# EAGLE library part XC2SE-FG456 (library Xilinx)
Spartan 2E FPGA in FG456 Package
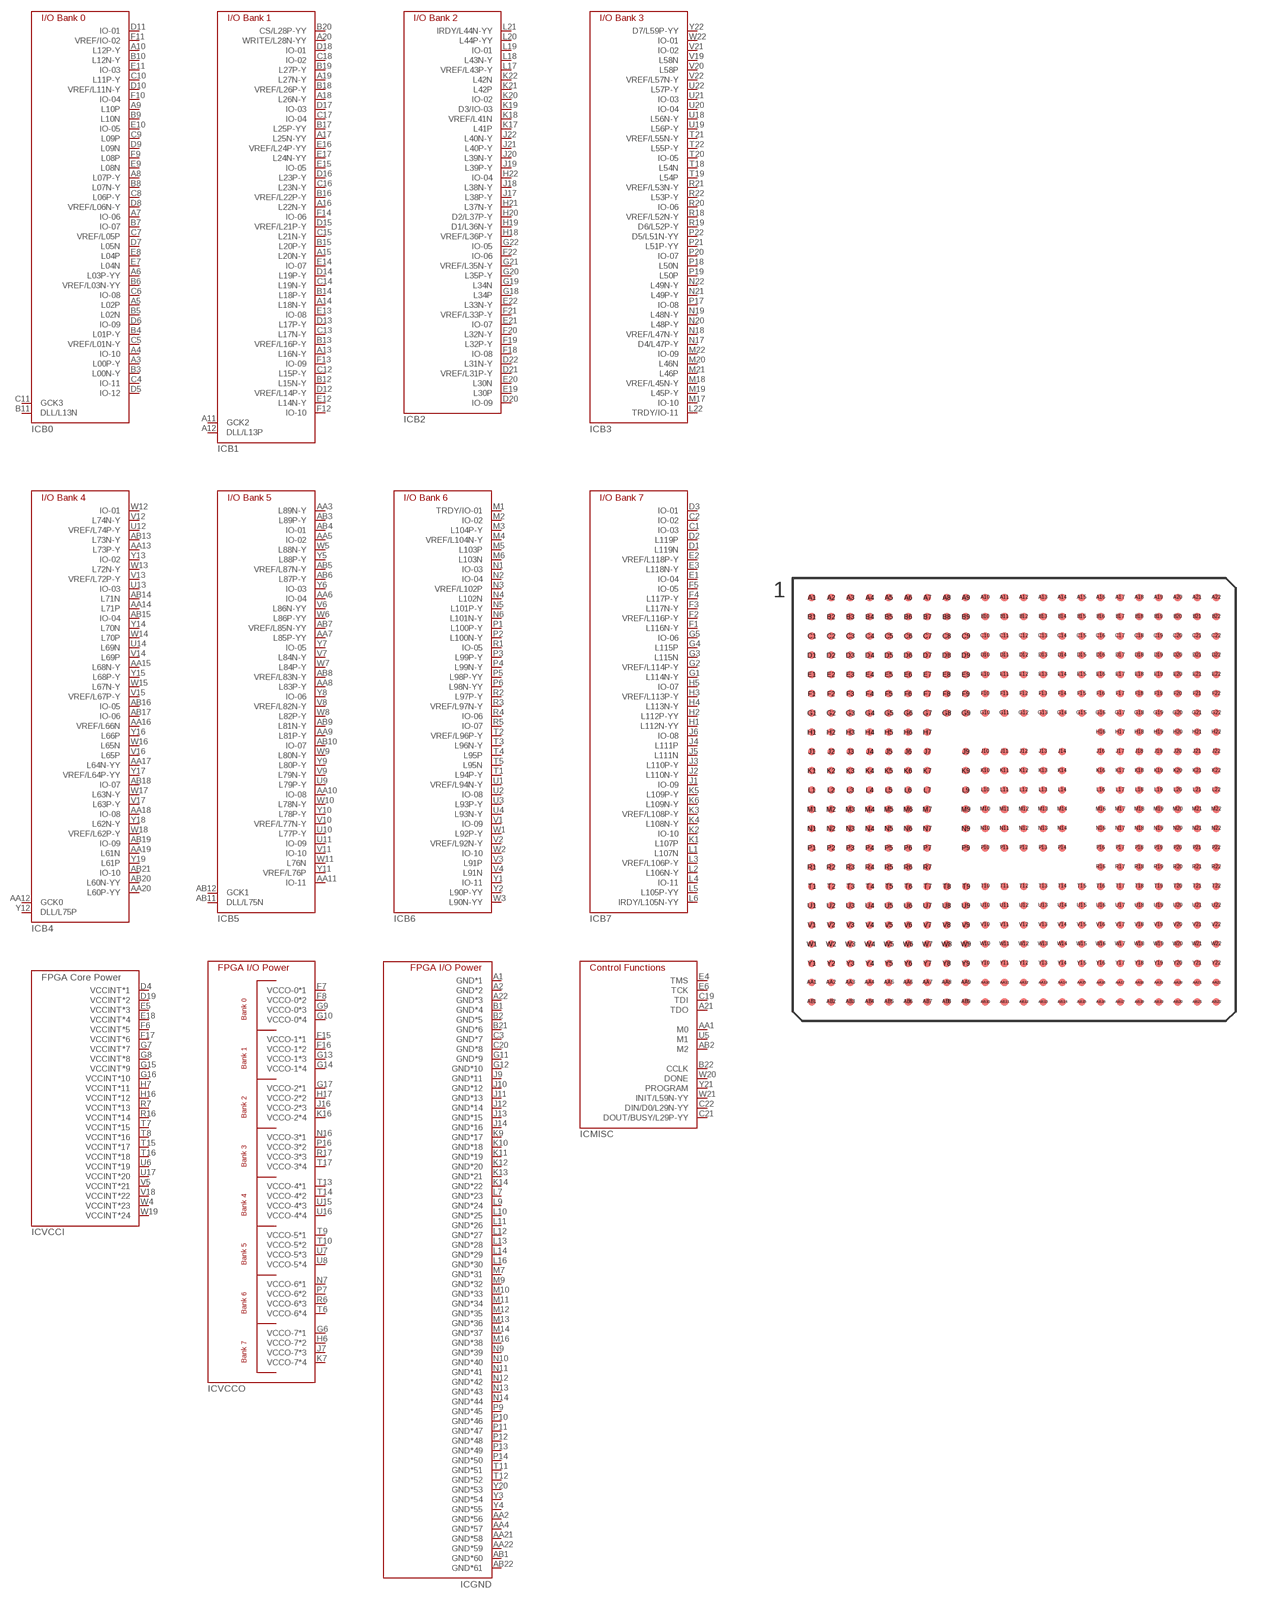
[diagram p19: symbol with the pads of FG456; footprint FG456]

Designator prefix IC; gates B0=XC2SE/FG456-B0 B1=XC2SE/FG456-B1 B3=XC2SE/FG456-B3 B5=XC2SE/FG456-B5 B6=XC2SE/FG456-B6 B7=XC2SE/FG456-B7 VCCI=XC2SE/FG456-VCCI VCCO=XC2SE/FG456-VCCO GND=XC2SE/FG456-GND MISC=XC2SE/FG456-MISC B2=XC2SE/FG456-B2 B4=XC2SE/FG456-B4

## XC2SE-FG456  [FG456]
A1  GND:GND*1  pwr
A2  GND:GND*2  pwr
A3  B0:L00P-Y
A4  B0:IO-10
A5  B0:L02P
A6  B0:L03P-YY
A7  B0:IO-06
A8  B0:L07P-Y
A9  B0:L10P
A10  B0:L12P-Y
A11  B1:GCK2
A12  B1:DLL/L13P
A13  B1:L16N-Y
A14  B1:L18N-Y
A15  B1:L20N-Y
A16  B1:L22N-Y
A17  B1:L25N-YY
A18  B1:L26N-Y
A19  B1:L27N-Y
A20  B1:WRITE/L28N-YY
A21  MISC:TDO
A22  GND:GND*3  pwr
AA1  MISC:M0
AA2  GND:GND*56  pwr
AA3  B5:L89N-Y
AA4  GND:GND*57  pwr
AA5  B5:IO-02
AA6  B5:IO-04
AA7  B5:L85P-YY
AA8  B5:L83P-Y
AA9  B5:L81P-Y
AA10  B5:IO-08
AA11  B5:IO-11
AA12  B4:GCK0
AA13  B4:L73P-Y
AA14  B4:L71P
AA15  B4:L68N-Y
AA16  B4:VREF/L66N
AA17  B4:L64N-YY
AA18  B4:IO-08
AA19  B4:L61N
AA20  B4:L60P-YY
AA21  GND:GND*58  pwr
AA22  GND:GND*59  pwr
AB1  GND:GND*60  pwr
AB2  MISC:M2
AB3  B5:L89P-Y
AB4  B5:IO-01
AB5  B5:VREF/L87N-Y
AB6  B5:L87P-Y
AB7  B5:VREF/L85N-YY
AB8  B5:VREF/L83N-Y
AB9  B5:L81N-Y
AB10  B5:IO-07
AB11  B5:DLL/L75N
AB12  B5:GCK1
AB13  B4:L73N-Y
AB14  B4:L71N
AB15  B4:IO-04
AB16  B4:IO-05
AB17  B4:IO-06
AB18  B4:IO-07
AB19  B4:IO-09
AB20  B4:L60N-YY
AB21  B4:IO-10
AB22  GND:GND*61  pwr
B1  GND:GND*4  pwr
B2  GND:GND*5  pwr
B3  B0:L00N-Y
B4  B0:L01P-Y
B5  B0:L02N
B6  B0:VREF/L03N-YY
B7  B0:IO-07
B8  B0:L07N-Y
B9  B0:L10N
B10  B0:L12N-Y
B11  B0:DLL/L13N
B12  B1:L15N-Y
B13  B1:VREF/L16P-Y
B14  B1:L18P-Y
B15  B1:L20P-Y
B16  B1:VREF/L22P-Y
B17  B1:L25P-YY
B18  B1:VREF/L26P-Y
B19  B1:L27P-Y
B20  B1:CS/L28P-YY
B21  GND:GND*6  pwr
B22  MISC:CCLK
C1  B7:IO-03
C2  B7:IO-02
C3  GND:GND*7  pwr
C4  B0:IO-11
C5  B0:VREF/L01N-Y
C6  B0:IO-08
C7  B0:VREF/L05P
C8  B0:L06P-Y
C9  B0:L09P
C10  B0:L11P-Y
C11  B0:GCK3
C12  B1:L15P-Y
C13  B1:L17N-Y
C14  B1:L19N-Y
C15  B1:L21N-Y
C16  B1:L23N-Y
C17  B1:IO-04
C18  B1:IO-02
C19  MISC:TDI
C20  GND:GND*8  pwr
C21  MISC:DOUT/BUSY/L29P-YY
C22  MISC:DIN/D0/L29N-YY
D1  B7:L119N
D2  B7:L119P
D3  B7:IO-01
D4  VCCI:VCCINT*1  pwr
D5  B0:IO-12
D6  B0:IO-09
D7  B0:L05N
D8  B0:VREF/L06N-Y
D9  B0:L09N
D10  B0:VREF/L11N-Y
D11  B0:IO-01
D12  B1:VREF/L14P-Y
D13  B1:L17P-Y
D14  B1:L19P-Y
D15  B1:VREF/L21P-Y
D16  B1:L23P-Y
D17  B1:IO-03
D18  B1:IO-01
D19  VCCI:VCCINT*2  pwr
D20  B2:IO-09
D21  B2:VREF/L31P-Y
D22  B2:L31N-Y
E1  B7:IO-04
E2  B7:VREF/L118P-Y
E3  B7:L118N-Y
E4  MISC:TMS
E5  VCCI:VCCINT*3  pwr
E6  MISC:TCK
E7  B0:L04N
E8  B0:L04P
E9  B0:L08N
E10  B0:IO-05
E11  B0:IO-03
E12  B1:L14N-Y
E13  B1:IO-08
E14  B1:IO-07
E15  B1:IO-05
E16  B1:VREF/L24P-YY
E17  B1:L24N-YY
E18  VCCI:VCCINT*4  pwr
E19  B2:L30P
E20  B2:L30N
E21  B2:IO-07
E22  B2:L33N-Y
F1  B7:L116N-Y
F2  B7:VREF/L116P-Y
F3  B7:L117N-Y
F4  B7:L117P-Y
F5  B7:IO-05
F6  VCCI:VCCINT*5  pwr
F7  VCCO:VCCO-0*1  pwr
F8  VCCO:VCCO-0*2  pwr
F9  B0:L08P
F10  B0:IO-04
F11  B0:VREF/IO-02
F12  B1:IO-10
F13  B1:IO-09
F14  B1:IO-06
F15  VCCO:VCCO-1*1  pwr
F16  VCCO:VCCO-1*2  pwr
F17  VCCI:VCCINT*6  pwr
F18  B2:IO-08
F19  B2:L32P-Y
F20  B2:L32N-Y
F21  B2:VREF/L33P-Y
F22  B2:IO-06
G1  B7:L114N-Y
G2  B7:VREF/L114P-Y
G3  B7:L115N
G4  B7:L115P
G5  B7:IO-06
G6  VCCO:VCCO-7*1  pwr
G7  VCCI:VCCINT*7  pwr
G8  VCCI:VCCINT*8  pwr
G9  VCCO:VCCO-0*3  pwr
G10  VCCO:VCCO-0*4  pwr
G11  GND:GND*9  pwr
G12  GND:GND*10  pwr
G13  VCCO:VCCO-1*3  pwr
G14  VCCO:VCCO-1*4  pwr
G15  VCCI:VCCINT*9  pwr
G16  VCCI:VCCINT*10  pwr
G17  VCCO:VCCO-2*1  pwr
G18  B2:L34P
G19  B2:L34N
G20  B2:L35P-Y
G21  B2:VREF/L35N-Y
G22  B2:IO-05
H1  B7:L112N-YY
H2  B7:L112P-YY
H3  B7:VREF/L113P-Y
H4  B7:L113N-Y
H5  B7:IO-07
H6  VCCO:VCCO-7*2  pwr
H7  VCCI:VCCINT*11  pwr
H16  VCCI:VCCINT*12  pwr
H17  VCCO:VCCO-2*2  pwr
H18  B2:VREF/L36P-Y
H19  B2:D1/L36N-Y
H20  B2:D2/L37P-Y
H21  B2:L37N-Y
H22  B2:IO-04
J1  B7:IO-09
J2  B7:L110N-Y
J3  B7:L110P-Y
J4  B7:L111P
J5  B7:L111N
J6  B7:IO-08
J7  VCCO:VCCO-7*3  pwr
J9  GND:GND*11  pwr
J10  GND:GND*12  pwr
J11  GND:GND*13  pwr
J12  GND:GND*14  pwr
J13  GND:GND*15  pwr
J14  GND:GND*16  pwr
J16  VCCO:VCCO-2*3  pwr
J17  B2:L38P-Y
J18  B2:L38N-Y
J19  B2:L39P-Y
J20  B2:L39N-Y
J21  B2:L40P-Y
J22  B2:L40N-Y
K1  B7:L107P
K2  B7:IO-10
K3  B7:VREF/L108P-Y
K4  B7:L108N-Y
K5  B7:L109P-Y
K6  B7:L109N-Y
K7  VCCO:VCCO-7*4  pwr
K9  GND:GND*17  pwr
K10  GND:GND*18  pwr
K11  GND:GND*19  pwr
K12  GND:GND*20  pwr
K13  GND:GND*21  pwr
K14  GND:GND*22  pwr
K16  VCCO:VCCO-2*4  pwr
K17  B2:L41P
K18  B2:VREF/L41N
K19  B2:D3/IO-03
K20  B2:IO-02
K21  B2:L42P
K22  B2:L42N
L1  B7:L107N
L2  B7:L106N-Y
L3  B7:VREF/L106P-Y
L4  B7:IO-11
L5  B7:L105P-YY
L6  B7:IRDY/L105N-YY
L7  GND:GND*23  pwr
L9  GND:GND*24  pwr
L10  GND:GND*25  pwr
L11  GND:GND*26  pwr
L12  GND:GND*27  pwr
L13  GND:GND*28  pwr
L14  GND:GND*29  pwr
L16  GND:GND*30  pwr
L17  B2:VREF/L43P-Y
L18  B2:L43N-Y
L19  B2:IO-01
L20  B2:L44P-YY
L21  B2:IRDY/L44N-YY
L22  B3:TRDY/IO-11
M1  B6:TRDY/IO-01
M2  B6:IO-02
M3  B6:L104P-Y
M4  B6:VREF/L104N-Y
M5  B6:L103P
M6  B6:L103N
M7  GND:GND*31  pwr
M9  GND:GND*32  pwr
M10  GND:GND*33  pwr
M11  GND:GND*34  pwr
M12  GND:GND*35  pwr
M13  GND:GND*36  pwr
M14  GND:GND*37  pwr
M16  GND:GND*38  pwr
M17  B3:IO-10
M18  B3:VREF/L45N-Y
M19  B3:L45P-Y
M20  B3:L46N
M21  B3:L46P
M22  B3:IO-09
N1  B6:IO-03
N2  B6:IO-04
N3  B6:VREF/L102P
N4  B6:L102N
N5  B6:L101P-Y
N6  B6:L101N-Y
N7  VCCO:VCCO-6*1  pwr
N9  GND:GND*39  pwr
N10  GND:GND*40  pwr
N11  GND:GND*41  pwr
N12  GND:GND*42  pwr
N13  GND:GND*43  pwr
N14  GND:GND*44  pwr
N16  VCCO:VCCO-3*1  pwr
N17  B3:D4/L47P-Y
N18  B3:VREF/L47N-Y
N19  B3:L48N-Y
N20  B3:L48P-Y
N21  B3:L49P-Y
N22  B3:L49N-Y
P1  B6:L100P-Y
P2  B6:L100N-Y
P3  B6:L99P-Y
P4  B6:L99N-Y
P5  B6:L98P-YY
P6  B6:L98N-YY
P7  VCCO:VCCO-6*2  pwr
P9  GND:GND*45  pwr
P10  GND:GND*46  pwr
P11  GND:GND*47  pwr
P12  GND:GND*48  pwr
P13  GND:GND*49  pwr
P14  GND:GND*50  pwr
P16  VCCO:VCCO-3*2  pwr
P17  B3:IO-08
P18  B3:L50N
P19  B3:L50P
P20  B3:IO-07
P21  B3:L51P-YY
P22  B3:D5/L51N-YY
R1  B6:IO-05
R2  B6:L97P-Y
R3  B6:VREF/L97N-Y
R4  B6:IO-06
R5  B6:IO-07
R6  VCCO:VCCO-6*3  pwr
R7  VCCI:VCCINT*13  pwr
R16  VCCI:VCCINT*14  pwr
R17  VCCO:VCCO-3*3  pwr
R18  B3:VREF/L52N-Y
R19  B3:D6/L52P-Y
R20  B3:IO-06
R21  B3:VREF/L53N-Y
R22  B3:L53P-Y
T1  B6:L94P-Y
T2  B6:VREF/L96P-Y
T3  B6:L96N-Y
T4  B6:L95P
T5  B6:L95N
T6  VCCO:VCCO-6*4  pwr
T7  VCCI:VCCINT*15  pwr
T8  VCCI:VCCINT*16  pwr
T9  VCCO:VCCO-5*1  pwr
T10  VCCO:VCCO-5*2  pwr
T11  GND:GND*51  pwr
T12  GND:GND*52  pwr
T13  VCCO:VCCO-4*1  pwr
T14  VCCO:VCCO-4*2  pwr
T15  VCCI:VCCINT*17  pwr
T16  VCCI:VCCINT*18  pwr
T17  VCCO:VCCO-3*4  pwr
T18  B3:L54N
T19  B3:L54P
T20  B3:IO-05
T21  B3:VREF/L55N-Y
T22  B3:L55P-Y
U1  B6:VREF/L94N-Y
U2  B6:IO-08
U3  B6:L93P-Y
U4  B6:L93N-Y
U5  MISC:M1
U6  VCCI:VCCINT*19  pwr
U7  VCCO:VCCO-5*3  pwr
U8  VCCO:VCCO-5*4  pwr
U9  B5:L79P-Y
U10  B5:L77P-Y
U11  B5:IO-09
U12  B4:VREF/L74P-Y
U13  B4:IO-03
U14  B4:L69N
U15  VCCO:VCCO-4*3  pwr
U16  VCCO:VCCO-4*4  pwr
U17  VCCI:VCCINT*20  pwr
U18  B3:L56N-Y
U19  B3:L56P-Y
U20  B3:IO-04
U21  B3:IO-03
U22  B3:L57P-Y
V1  B6:IO-09
V2  B6:VREF/L92N-Y
V3  B6:L91P
V4  B6:L91N
V5  VCCI:VCCINT*21  pwr
V6  B5:L86N-YY
V7  B5:L84N-Y
V8  B5:VREF/L82N-Y
V9  B5:L79N-Y
V10  B5:VREF/L77N-Y
V11  B5:IO-10
V12  B4:L74N-Y
V13  B4:VREF/L72P-Y
V14  B4:L69P
V15  B4:VREF/L67P-Y
V16  B4:L65P
V17  B4:L63P-Y
V18  VCCI:VCCINT*22  pwr
V19  B3:L58N
V20  B3:L58P
V21  B3:IO-02
V22  B3:VREF/L57N-Y
W1  B6:L92P-Y
W2  B6:IO-10
W3  B6:L90N-YY
W4  VCCI:VCCINT*23  pwr
W5  B5:L88N-Y
W6  B5:L86P-YY
W7  B5:L84P-Y
W8  B5:L82P-Y
W9  B5:L80N-Y
W10  B5:L78N-Y
W11  B5:L76N
W12  B4:IO-01
W13  B4:L72N-Y
W14  B4:L70P
W15  B4:L67N-Y
W16  B4:L65N
W17  B4:L63N-Y
W18  B4:VREF/L62P-Y
W19  VCCI:VCCINT*24  pwr
W20  MISC:DONE
W21  MISC:INIT/L59N-YY
W22  B3:IO-01
Y1  B6:IO-11
Y2  B6:L90P-YY
Y3  GND:GND*54  pwr
Y4  GND:GND*55  pwr
Y5  B5:L88P-Y
Y6  B5:IO-03
Y7  B5:IO-05
Y8  B5:IO-06
Y9  B5:L80P-Y
Y10  B5:L78P-Y
Y11  B5:VREF/L76P
Y12  B4:DLL/L75P
Y13  B4:IO-02
Y14  B4:L70N
Y15  B4:L68P-Y
Y16  B4:L66P
Y17  B4:VREF/L64P-YY
Y18  B4:L62N-Y
Y19  B4:L61P
Y20  GND:GND*53  pwr
Y21  MISC:PROGRAM
Y22  B3:D7/L59P-YY

## Footprint FG456 (pad centres in mm)
smd 0.4 x 0.4: A1 -10.5,10.5; A2 -9.5,10.5; A3 -8.5,10.5; A4 -7.5,10.5; A5 -6.5,10.5; A6 -5.5,10.5; A7 -4.5,10.5; A8 -3.5,10.5; A9 -2.5,10.5; A10 -1.5,10.5; A11 -0.5,10.5; A12 0.5,10.5; A13 1.5,10.5; A14 2.5,10.5; A15 3.5,10.5; A16 4.5,10.5; A17 5.5,10.5; A18 6.5,10.5; A19 7.5,10.5; A20 8.5,10.5; A21 9.5,10.5; A22 10.5,10.5; AA1 -10.5,-9.5; AA2 -9.5,-9.5; AA3 -8.5,-9.5; AA4 -7.5,-9.5; AA5 -6.5,-9.5; AA6 -5.5,-9.5; AA7 -4.5,-9.5; AA8 -3.5,-9.5; AA9 -2.5,-9.5; AA10 -1.5,-9.5; AA11 -0.5,-9.5; AA12 0.5,-9.5; AA13 1.5,-9.5; AA14 2.5,-9.5; AA15 3.5,-9.5; AA16 4.5,-9.5; AA17 5.5,-9.5; AA18 6.5,-9.5; AA19 7.5,-9.5; AA20 8.5,-9.5; AA21 9.5,-9.5; AA22 10.5,-9.5; AB1 -10.5,-10.5; AB2 -9.5,-10.5; AB3 -8.5,-10.5; AB4 -7.5,-10.5; AB5 -6.5,-10.5; AB6 -5.5,-10.5; AB7 -4.5,-10.5; AB8 -3.5,-10.5; AB9 -2.5,-10.5; AB10 -1.5,-10.5; AB11 -0.5,-10.5; AB12 0.5,-10.5; AB13 1.5,-10.5; AB14 2.5,-10.5; AB15 3.5,-10.5; AB16 4.5,-10.5; AB17 5.5,-10.5; AB18 6.5,-10.5; AB19 7.5,-10.5; AB20 8.5,-10.5; AB21 9.5,-10.5; AB22 10.5,-10.5; B1 -10.5,9.5; B2 -9.5,9.5; B3 -8.5,9.5; B4 -7.5,9.5; B5 -6.5,9.5; B6 -5.5,9.5; B7 -4.5,9.5; B8 -3.5,9.5; B9 -2.5,9.5; B10 -1.5,9.5; B11 -0.5,9.5; B12 0.5,9.5; B13 1.5,9.5; B14 2.5,9.5; B15 3.5,9.5; B16 4.5,9.5; B17 5.5,9.5; B18 6.5,9.5; B19 7.5,9.5; B20 8.5,9.5; B21 9.5,9.5; B22 10.5,9.5; C1 -10.5,8.5; C2 -9.5,8.5; C3 -8.5,8.5; C4 -7.5,8.5; C5 -6.5,8.5; C6 -5.5,8.5; C7 -4.5,8.5; C8 -3.5,8.5; C9 -2.5,8.5; C10 -1.5,8.5; C11 -0.5,8.5; C12 0.5,8.5; C13 1.5,8.5; C14 2.5,8.5; C15 3.5,8.5; C16 4.5,8.5; C17 5.5,8.5; C18 6.5,8.5; C19 7.5,8.5; C20 8.5,8.5; C21 9.5,8.5; C22 10.5,8.5; D1 -10.5,7.5; D2 -9.5,7.5; D3 -8.5,7.5; D4 -7.5,7.5; D5 -6.5,7.5; D6 -5.5,7.5; D7 -4.5,7.5; D8 -3.5,7.5; D9 -2.5,7.5; D10 -1.5,7.5; D11 -0.5,7.5; D12 0.5,7.5; D13 1.5,7.5; D14 2.5,7.5; D15 3.5,7.5; D16 4.5,7.5; D17 5.5,7.5; D18 6.5,7.5; D19 7.5,7.5; D20 8.5,7.5; D21 9.5,7.5; D22 10.5,7.5; E1 -10.5,6.5; E2 -9.5,6.5; E3 -8.5,6.5; E4 -7.5,6.5; E5 -6.5,6.5; E6 -5.5,6.5; E7 -4.5,6.5; E8 -3.5,6.5; E9 -2.5,6.5; E10 -1.5,6.5; E11 -0.5,6.5; E12 0.5,6.5; E13 1.5,6.5; E14 2.5,6.5; E15 3.5,6.5; E16 4.5,6.5; E17 5.5,6.5; E18 6.5,6.5; E19 7.5,6.5; E20 8.5,6.5; E21 9.5,6.5; E22 10.5,6.5; F1 -10.5,5.5; F2 -9.5,5.5; F3 -8.5,5.5; F4 -7.5,5.5; F5 -6.5,5.5; F6 -5.5,5.5; F7 -4.5,5.5; F8 -3.5,5.5; F9 -2.5,5.5; F10 -1.5,5.5; F11 -0.5,5.5; F12 0.5,5.5; F13 1.5,5.5; F14 2.5,5.5; F15 3.5,5.5; F16 4.5,5.5; F17 5.5,5.5; F18 6.5,5.5; F19 7.5,5.5; F20 8.5,5.5; F21 9.5,5.5; F22 10.5,5.5; G1 -10.5,4.5; G2 -9.5,4.5; G3 -8.5,4.5; G4 -7.5,4.5; G5 -6.5,4.5; G6 -5.5,4.5; G7 -4.5,4.5; G8 -3.5,4.5; G9 -2.5,4.5; G10 -1.5,4.5; G11 -0.5,4.5; G12 0.5,4.5; G13 1.5,4.5; G14 2.5,4.5; G15 3.5,4.5; G16 4.5,4.5; G17 5.5,4.5; G18 6.5,4.5; G19 7.5,4.5; G20 8.5,4.5; G21 9.5,4.5; G22 10.5,4.5; H1 -10.5,3.5; H2 -9.5,3.5; H3 -8.5,3.5; H4 -7.5,3.5; H5 -6.5,3.5; H6 -5.5,3.5; H7 -4.5,3.5; H16 4.5,3.5; H17 5.5,3.5; H18 6.5,3.5; H19 7.5,3.5; H20 8.5,3.5; H21 9.5,3.5; H22 10.5,3.5; J1 -10.5,2.5; J2 -9.5,2.5; J3 -8.5,2.5; J4 -7.5,2.5; J5 -6.5,2.5; J6 -5.5,2.5; J7 -4.5,2.5; J9 -2.5,2.5; J10 -1.5,2.5; J11 -0.5,2.5; J12 0.5,2.5; J13 1.5,2.5; J14 2.5,2.5; J16 4.5,2.5; J17 5.5,2.5; J18 6.5,2.5; J19 7.5,2.5; J20 8.5,2.5; J21 9.5,2.5; J22 10.5,2.5; K1 -10.5,1.5; K2 -9.5,1.5; K3 -8.5,1.5; K4 -7.5,1.5; K5 -6.5,1.5; K6 -5.5,1.5; K7 -4.5,1.5; K9 -2.5,1.5; K10 -1.5,1.5; K11 -0.5,1.5; K12 0.5,1.5; K13 1.5,1.5; K14 2.5,1.5; K16 4.5,1.5; K17 5.5,1.5; K18 6.5,1.5; K19 7.5,1.5; K20 8.5,1.5; K21 9.5,1.5; K22 10.5,1.5; L1 -10.5,0.5; L2 -9.5,0.5; L3 -8.5,0.5; L4 -7.5,0.5; L5 -6.5,0.5; L6 -5.5,0.5; L7 -4.5,0.5; L9 -2.5,0.5; L10 -1.5,0.5; L11 -0.5,0.5; L12 0.5,0.5; L13 1.5,0.5; L14 2.5,0.5; L16 4.5,0.5; L17 5.5,0.5; L18 6.5,0.5; L19 7.5,0.5; L20 8.5,0.5; L21 9.5,0.5; L22 10.5,0.5; M1 -10.5,-0.5; M2 -9.5,-0.5; M3 -8.5,-0.5; M4 -7.5,-0.5; M5 -6.5,-0.5; M6 -5.5,-0.5; M7 -4.5,-0.5; M9 -2.5,-0.5; M10 -1.5,-0.5; M11 -0.5,-0.5; M12 0.5,-0.5; M13 1.5,-0.5; M14 2.5,-0.5; M16 4.5,-0.5; M17 5.5,-0.5; M18 6.5,-0.5; M19 7.5,-0.5; M20 8.5,-0.5; M21 9.5,-0.5; M22 10.5,-0.5; N1 -10.5,-1.5; N2 -9.5,-1.5; N3 -8.5,-1.5; N4 -7.5,-1.5; N5 -6.5,-1.5; N6 -5.5,-1.5; N7 -4.5,-1.5; N9 -2.5,-1.5; N10 -1.5,-1.5; N11 -0.5,-1.5; N12 0.5,-1.5; N13 1.5,-1.5; N14 2.5,-1.5; N16 4.5,-1.5; N17 5.5,-1.5; N18 6.5,-1.5; N19 7.5,-1.5; N20 8.5,-1.5; N21 9.5,-1.5; N22 10.5,-1.5; P1 -10.5,-2.5; P2 -9.5,-2.5; P3 -8.5,-2.5; P4 -7.5,-2.5; P5 -6.5,-2.5; P6 -5.5,-2.5; P7 -4.5,-2.5; P9 -2.5,-2.5; P10 -1.5,-2.5; P11 -0.5,-2.5; P12 0.5,-2.5; P13 1.5,-2.5; P14 2.5,-2.5; P16 4.5,-2.5; P17 5.5,-2.5; P18 6.5,-2.5; P19 7.5,-2.5; P20 8.5,-2.5; P21 9.5,-2.5; P22 10.5,-2.5; R1 -10.5,-3.5; R2 -9.5,-3.5; R3 -8.5,-3.5; R4 -7.5,-3.5; R5 -6.5,-3.5; R6 -5.5,-3.5; R7 -4.5,-3.5; R16 4.5,-3.5; R17 5.5,-3.5; R18 6.5,-3.5; R19 7.5,-3.5; R20 8.5,-3.5; R21 9.5,-3.5; R22 10.5,-3.5; T1 -10.5,-4.5; T2 -9.5,-4.5; T3 -8.5,-4.5; T4 -7.5,-4.5; T5 -6.5,-4.5; T6 -5.5,-4.5; T7 -4.5,-4.5; T8 -3.5,-4.5; T9 -2.5,-4.5; T10 -1.5,-4.5; T11 -0.5,-4.5; T12 0.5,-4.5; T13 1.5,-4.5; T14 2.5,-4.5; T15 3.5,-4.5; T16 4.5,-4.5; T17 5.5,-4.5; T18 6.5,-4.5; T19 7.5,-4.5; T20 8.5,-4.5; T21 9.5,-4.5; T22 10.5,-4.5; U1 -10.5,-5.5; U2 -9.5,-5.5; U3 -8.5,-5.5; U4 -7.5,-5.5; U5 -6.5,-5.5; U6 -5.5,-5.5; U7 -4.5,-5.5; U8 -3.5,-5.5; U9 -2.5,-5.5; U10 -1.5,-5.5; U11 -0.5,-5.5; U12 0.5,-5.5; U13 1.5,-5.5; U14 2.5,-5.5; U15 3.5,-5.5; U16 4.5,-5.5; U17 5.5,-5.5; U18 6.5,-5.5; U19 7.5,-5.5; U20 8.5,-5.5; U21 9.5,-5.5; U22 10.5,-5.5; V1 -10.5,-6.5; V2 -9.5,-6.5; V3 -8.5,-6.5; V4 -7.5,-6.5; V5 -6.5,-6.5; V6 -5.5,-6.5; V7 -4.5,-6.5; V8 -3.5,-6.5; V9 -2.5,-6.5; V10 -1.5,-6.5; V11 -0.5,-6.5; V12 0.5,-6.5; V13 1.5,-6.5; V14 2.5,-6.5; V15 3.5,-6.5; V16 4.5,-6.5; V17 5.5,-6.5; V18 6.5,-6.5; V19 7.5,-6.5; V20 8.5,-6.5; V21 9.5,-6.5; V22 10.5,-6.5; W1 -10.5,-7.5; W2 -9.5,-7.5; W3 -8.5,-7.5; W4 -7.5,-7.5; W5 -6.5,-7.5; W6 -5.5,-7.5; W7 -4.5,-7.5; W8 -3.5,-7.5; W9 -2.5,-7.5; W10 -1.5,-7.5; W11 -0.5,-7.5; W12 0.5,-7.5; W13 1.5,-7.5; W14 2.5,-7.5; W15 3.5,-7.5; W16 4.5,-7.5; W17 5.5,-7.5; W18 6.5,-7.5; W19 7.5,-7.5; W20 8.5,-7.5; W21 9.5,-7.5; W22 10.5,-7.5; Y1 -10.5,-8.5; Y2 -9.5,-8.5; Y3 -8.5,-8.5; Y4 -7.5,-8.5; Y5 -6.5,-8.5; Y6 -5.5,-8.5; Y7 -4.5,-8.5; Y8 -3.5,-8.5; Y9 -2.5,-8.5; Y10 -1.5,-8.5; Y11 -0.5,-8.5; Y12 0.5,-8.5; Y13 1.5,-8.5; Y14 2.5,-8.5; Y15 3.5,-8.5; Y16 4.5,-8.5; Y17 5.5,-8.5; Y18 6.5,-8.5; Y19 7.5,-8.5; Y20 8.5,-8.5; Y21 9.5,-8.5; Y22 10.5,-8.5